# Altium footprint library PCB - LEADLESS - QFN - TI VQFN-20 RHL0020A.PcbLib: 1 footprints
Each footprint in its own frame and in the unit in brackets; x right, y up, seen from the top. Pads: shape width x height; smd on the part's side, far side on the other; paste and mask are expansions set on the pad; w line width, h text height; cw(c..) or ccw(c..) is an arc to the next point about the centre after c.
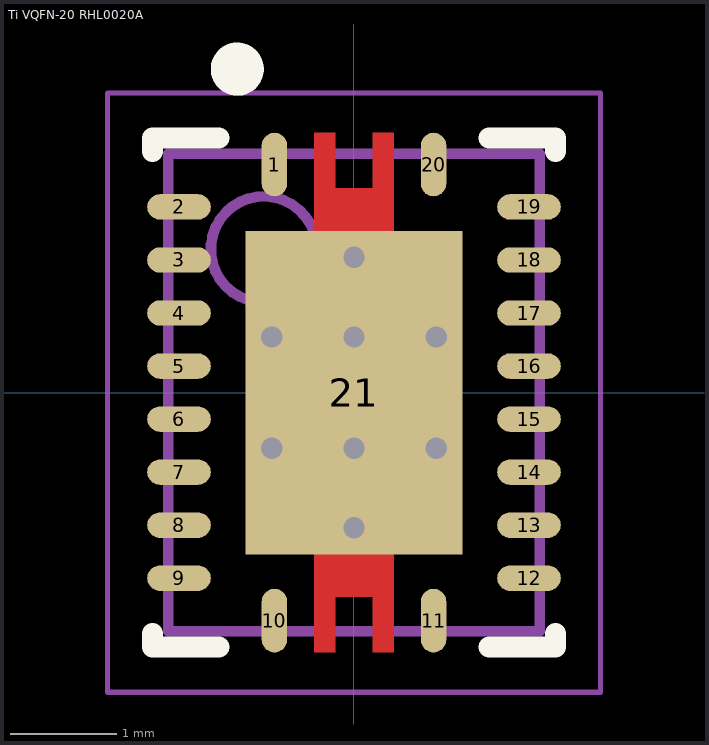
[diagram p0: the footprint, top view; thin cyan lines are the x and y axes]

## Ti VQFN-20 RHL0020A [mm] "QFN, 20-Leads, Body 3.50x4.50mm, Pitch 1.50mm/0.50mm, Thermal Pad 2.05x3.05mm, IPC Medium Density"
height 1
pads (21):
  oval 0.24x0.6 smd: 1(-0.75,2.15) 10(-0.75,-2.15) 11(0.75,-2.15) 20(0.75,2.15)
  oval 0.6x0.24 smd: 2(-1.65,1.75) 3(-1.65,1.25) 4(-1.65,0.75) 5(-1.65,0.25) 6(-1.65,-0.25) 7(-1.65,-0.75) 8(-1.65,-1.25) 9(-1.65,-1.75) 12(1.65,-1.75) 13(1.65,-1.25) 14(1.65,-0.75) 15(1.65,-0.25) 16(1.65,0.25) 17(1.65,0.75) 18(1.65,1.25) 19(1.65,1.75)
  rect 2.05x3.05 smd: 21(0,0)
via -0.775,-0.525 diameter 0.5 hole 0.2
via -0.775,0.525 diameter 0.5 hole 0.2
via 0.775,-0.525 diameter 0.5 hole 0.2
via 0.775,0.525 diameter 0.5 hole 0.2
via 0,-1.275 diameter 0.5 hole 0.2
via 0,1.275 diameter 0.5 hole 0.2
via 0,0.525 diameter 0.5 hole 0.2
via 0,-0.525 diameter 0.5 hole 0.2
Top Layer:
  region: -0.375,1.5 -0.375,2.45 -0.175,2.45 -0.175,1.925 0.175,1.925 0.175,2.45 0.375,2.45 0.375,1.5
  region: -0.375,-2.45 -0.375,-1.5 0.375,-1.5 0.375,-2.45 0.175,-2.45 0.175,-1.925 -0.175,-1.925 -0.175,-2.45
Top Overlay:
  circle w0.25: c-1.1,3.05 r0.125
  lines w0.2: -1.9,-2.275 -1.9,-2.4 -1.275,-2.4 ; -1.9,2.275 -1.9,2.4 -1.275,2.4 ; 1.275,-2.4 1.9,-2.4 1.9,-2.275 ; 1.275,2.4 1.9,2.4 1.9,2.275
Top Assembly:
  circle w0.1: c-0.85,1.35 r0.5
  lines w0.1: -1.75,-2.25 1.75,-2.25 1.75,2.25 -1.75,2.25 -1.75,-2.25
Top Courtyard:
  lines w0.05: -2.325,-2.825 2.325,-2.825 2.325,2.825 -2.325,2.825 -2.325,-2.825
Top Component Center:
  lines w0.1: -0.5,0 0.5,0 ; 0,-0.5 0,0.5
3D body "TI - VQFN-20 - RHL0020A v2.step": height 1, standoff 0, extent -1.75,-2.25 1.75,2.25